# Altium footprint library LCD.PcbLib: 5 footprints
Each footprint in its own frame and in the unit in brackets; x right, y up, seen from the top. Pads: shape width x height; smd on the part's side, far side on the other; paste and mask are expansions set on the pad; w line width, h text height; cw(c..) or ccw(c..) is an arc to the next point about the centre after c.
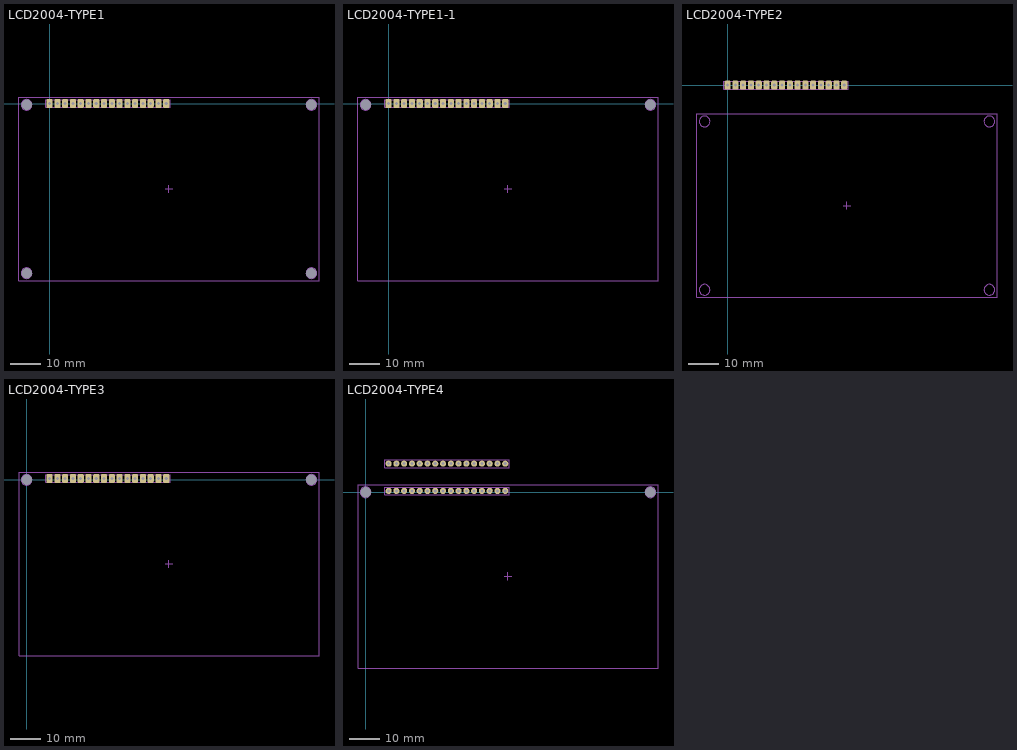
[diagram p0: the footprints below, top view; thin cyan lines are the x and y axes]

## LCD2004-TYPE1 [mm]
pads (20):
  rrect50% 2x3 hole 1: 1(0,0) 2(2.54,0) 3(5.08,0) 4(7.62,0) 5(10.16,0) 6(12.7,0) 7(15.24,0) 8(17.78,0) 9(20.32,0) 10(22.86,0) 11(25.4,0) 12(27.94,0) 13(30.48,0) 14(33.02,0) 15(35.56,0) 16(38.1,0)
  round 2 hole 3.5: O1(-7.5,-55.425) O1(-7.5,-0.425) O1(85.5,-55.425) O1(85.5,-0.425)
Top Assembly:
  circle w0.254: c85.5,-0.425 r1.75
  circle w0.254: c85.5,-55.425 r1.75
  circle w0.254: c-7.5,-55.425 r1.75
  circle w0.254: c-7.5,-0.425 r1.75
  lines w0.254: 37.71,-27.925 40.25,-27.925 ; 39,-29.175 39,-26.635 ; -10,-57.925 88,-57.925 88,2.075 -10,2.075 -10,-57.925 ; -1.27,-1.27 -1.27,1.27 39.37,1.27 39.37,-1.27 -1.27,-1.27
3D body "User Library-pls-16.STEP": height 8.76, standoff -2.74, extent -1.27,-1.27 39.37,1.27
3D body "User Library-LCD2004.STEP": height 22.05, standoff 10, extent -10,-57.925 88,2.075
3D body "User Library-pbs-16.STEP": height 13.73, standoff 2.73, extent -1.27,-1.27 39.37,1.27

## LCD2004-TYPE1-1 [mm]
pads (18):
  rrect50% 2x3 hole 1: 1(0,0) 2(2.54,0) 3(5.08,0) 4(7.62,0) 5(10.16,0) 6(12.7,0) 7(15.24,0) 8(17.78,0) 9(20.32,0) 10(22.86,0) 11(25.4,0) 12(27.94,0) 13(30.48,0) 14(33.02,0) 15(35.56,0) 16(38.1,0)
  round 2 hole 3.5: O1(-7.5,-0.425) O1(85.5,-0.425)
Top Assembly:
  circle w0.254: c-7.5,-0.425 r1.75
  circle w0.254: c85.5,-0.425 r1.75
  lines w0.254: 37.71,-27.925 40.25,-27.925 ; 39,-29.175 39,-26.635 ; -10,-57.925 -10,2.075 88,2.075 88,-57.925 -10,-57.925 ; -1.27,-1.27 39.37,-1.27 39.37,1.27 -1.27,1.27 -1.27,-1.27
3D body "User Library-pbs-16.STEP": height 13.73, standoff 2.73, extent -1.27,-1.27 39.37,1.27
3D body "User Library-pls-16.STEP": height 8.76, standoff -2.74, extent -1.27,-1.27 39.37,1.27
3D body "User Library-LCD2004.STEP": height 22.05, standoff 10, extent -10,-57.925 88,2.075

## LCD2004-TYPE2 [mm]
pads (16):
  rrect50% 2x3 hole 1: 1(0,0) 2(2.54,0) 3(5.08,0) 4(7.62,0) 5(10.16,0) 6(12.7,0) 7(15.24,0) 8(17.78,0) 9(20.32,0) 10(22.86,0) 11(25.4,0) 12(27.94,0) 13(30.48,0) 14(33.02,0) 15(35.56,0) 16(38.1,0)
Top Assembly:
  circle w0.254: c-7.5,-11.855 r1.75
  circle w0.254: c-7.5,-66.855 r1.75
  circle w0.254: c85.5,-66.855 r1.75
  circle w0.254: c85.5,-11.855 r1.75
  lines w0.254: 37.71,-39.355 40.25,-39.355 ; 39,-40.605 39,-38.065 ; -10,-69.355 -10,-9.355 88,-9.355 88,-69.355 -10,-69.355 ; -1.27,-1.27 39.37,-1.27 39.37,1.27 -1.27,1.27 -1.27,-1.27
3D body "User Library-LCD2004.STEP": height 14.35, standoff 2.3, extent -10,-69.355 88,-9.355
3D body "PLS-16R-U1.step": height 6.39, standoff -3, extent -1.27,-7.25 39.37,1.27
3D body "PBS-16R.step": height 7.36, standoff 1.52, extent -1.27,-11.659 39.37,-1.459

## LCD2004-TYPE3 [mm]
pads (18):
  rrect50% 2x3 hole 1: 1(7.5,0.425) 2(10.04,0.425) 3(12.58,0.425) 4(15.12,0.425) 5(17.66,0.425) 6(20.2,0.425) 7(22.74,0.425) 8(25.28,0.425) 9(27.82,0.425) 10(30.36,0.425) 11(32.9,0.425) 12(35.44,0.425) 13(37.98,0.425) 14(40.52,0.425) 15(43.06,0.425) 16(45.6,0.425)
  round 2 hole 3.5: O1(0,0) O1(93,0)
Top Assembly:
  circle w0.254: c93,0 r1.75
  circle w0.254: c0,0 r1.75
  lines w0.254: -2.5,2.5 -2.5,-57.5 95.5,-57.5 95.5,2.5 ; -2.5,2.5 95.5,2.5 ; 45.21,-27.5 47.75,-27.5 ; 46.5,-28.75 46.5,-26.21 ; 6.23,-0.845 6.23,1.695 46.87,1.695 46.87,-0.845 6.23,-0.845
3D body "User Library-pls-16.STEP": height 2.39, standoff -9.11, extent 6.23,-0.845 46.87,1.695
3D body "User Library-LCD2004.STEP": height -1.6, standoff -13.65, extent -2.502,-57.485 95.498,2.515
3D body "User Library-pbs-16.STEP": height -2.93, standoff -13.93, extent 6.23,-0.845 46.87,1.695

## LCD2004-TYPE4 [mm]
pads (34):
  round 2 hole 1: 1(7.5,0.425) 1(7.5,9.325) 2(10.04,0.425) 2(10.04,9.325) 3(12.58,0.425) 3(12.58,9.325) 4(15.12,0.425) 4(15.12,9.325) 5(17.66,0.425) 5(17.66,9.325) 6(20.2,0.425) 6(20.2,9.325) 7(22.74,0.425) 7(22.74,9.325) 8(25.28,0.425) 8(25.28,9.325) 9(27.82,0.425) 9(27.82,9.325) 10(30.36,0.425) 10(30.36,9.325) 11(32.9,0.425) 11(32.9,9.325) 12(35.44,0.425) 12(35.44,9.325) 13(37.98,0.425) 13(37.98,9.325) 14(40.52,0.425) 14(40.52,9.325) 15(43.06,0.425) 15(43.06,9.325) 16(45.6,0.425) 16(45.6,9.325)
  round 2 hole 3.5: O1(0,0) O1(93,0)
Bottom Overlay:
  lines w0.254: 6.23,10.57 6.23,8.03 46.87,8.03 46.87,10.57 ; 6.23,10.595 46.87,10.595 ; 6.23,-0.87 46.87,-0.87 46.87,1.67 6.23,1.67 6.23,-0.87
Top Assembly:
  circle w0.254: c93,0 r1.75
  circle w0.254: c0,0 r1.75
Bottom Assembly:
  circle w0.254: c93,0 r1.75
  circle w0.254: c0,0 r1.75
  lines w0.254: 45.21,-27.5 47.75,-27.5 ; 46.5,-28.75 46.5,-26.21 ; -2.5,-57.5 95.5,-57.5 95.5,2.5 -2.5,2.5 -2.5,-57.5 ; 6.23,-0.845 6.23,1.695 46.87,1.695 46.87,-0.845 6.23,-0.845 ; 6.23,8.055 6.23,10.595 46.87,10.595 46.87,8.055 6.23,8.055
3D body "User Library-pls-16.STEP": height 2.39, standoff -9.11, extent 6.23,-0.845 46.87,1.695
3D body "User Library-LCD2004.STEP": height -1.6, standoff -13.65, extent -2.502,-57.485 95.498,2.515
3D body "User Library-pbs-16.STEP": height -2.93, standoff -13.93, extent 6.23,-0.845 46.87,1.695